# Altium footprint library Components - 12.02.20 - 18.05.PcbLib: 2 footprints
Each footprint in its own frame and in the unit in brackets; x right, y up, seen from the top. Pads: shape width x height; smd on the part's side, far side on the other; paste and mask are expansions set on the pad; w line width, h text height; cw(c..) or ccw(c..) is an arc to the next point about the centre after c.
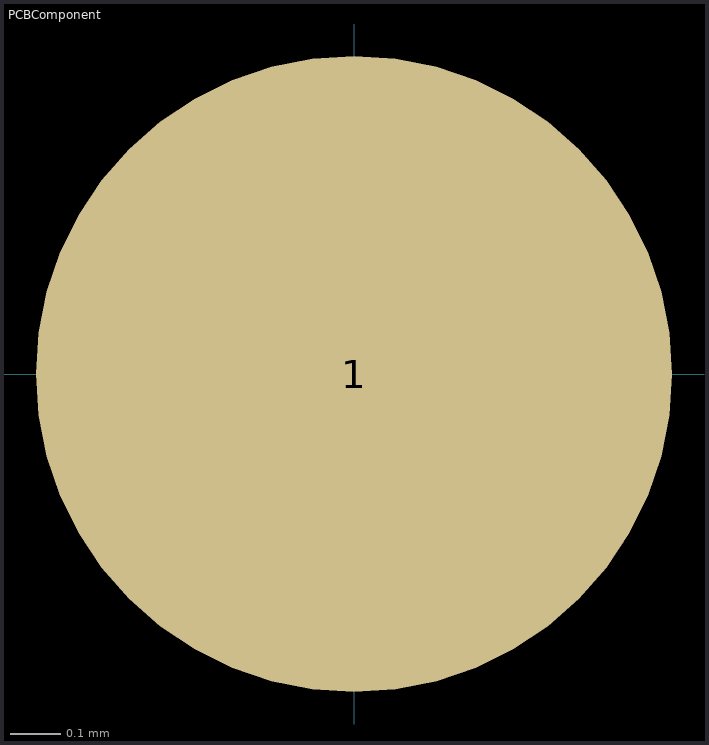
[diagram p0: the footprints below, top view; thin cyan lines are the x and y axes]

## PCBComponent [mil]
pads (1):
  round 50 smd mask+0: 1(0,0)
3D body: height 0.2, standoff -0.59, extent -24.8,-24.95 25,24.95

## PCBComponent_1 [mil]